# Altium schematic symbol library con-ptr500.SCHLIB: 34 symbols
Pins are listed as number, name and electrical type; pins without a type are passive.

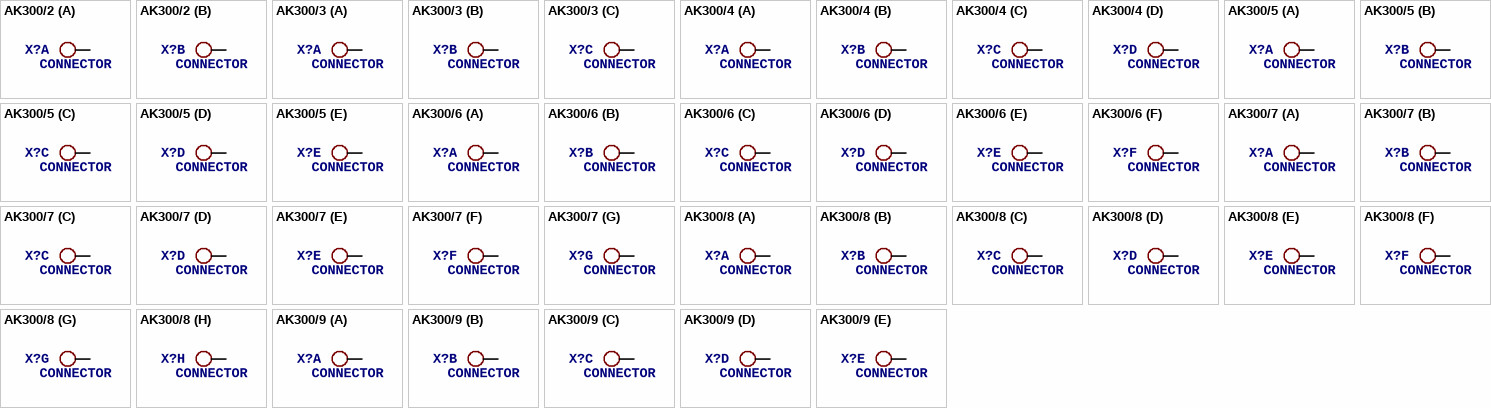
[diagram p0: symbols AK300/2 to AK300/9]

## AK300/2
designator X?, comment CONNECTOR
OC_FARNELL: unknown; OC_NEWARK: unknown
footprint AK300/2
part A pins: 1 KL
part B pins: 2 KL

## AK300/3
designator X?, comment CONNECTOR
OC_FARNELL: unknown; OC_NEWARK: unknown
footprint AK300/3
part A pins: 1 KL
part B pins: 2 KL
part C pins: 3 KL

## AK300/4
designator X?, comment CONNECTOR
OC_FARNELL: unknown; OC_NEWARK: unknown
footprint AK300/4
part A pins: 1 KL
part B pins: 2 KL
part C pins: 3 KL
part D pins: 4 KL

## AK300/5
designator X?, comment CONNECTOR
OC_FARNELL: unknown; OC_NEWARK: unknown
footprint AK300/5
part A pins: 1 KL
part B pins: 2 KL
part C pins: 3 KL
part D pins: 4 KL
part E pins: 5 KL

## AK300/6
designator X?, comment CONNECTOR
OC_FARNELL: unknown; OC_NEWARK: unknown
footprint AK300/6
part A pins: 1 KL
part B pins: 2 KL
part C pins: 3 KL
part D pins: 4 KL
part E pins: 5 KL
part F pins: 6 KL

## AK300/7
designator X?, comment CONNECTOR
OC_FARNELL: unknown; OC_NEWARK: unknown
footprint AK300/7
part A pins: 1 KL
part B pins: 2 KL
part C pins: 3 KL
part D pins: 4 KL
part E pins: 5 KL
part F pins: 6 KL
part G pins: 7 KL

## AK300/8
designator X?, comment CONNECTOR
OC_FARNELL: unknown; OC_NEWARK: unknown
footprint AK300/8
part A pins: 1 KL
part B pins: 2 KL
part C pins: 3 KL
part D pins: 4 KL
part E pins: 5 KL
part F pins: 6 KL
part G pins: 7 KL
part H pins: 8 KL

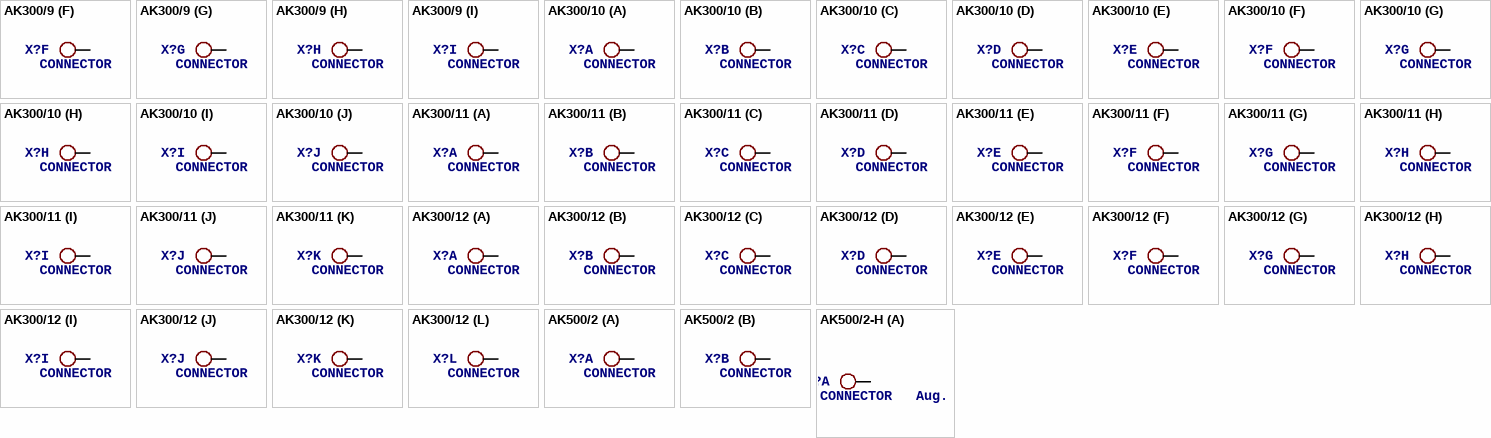
[diagram p1: symbols AK300/9 to AK500/2-H]

## AK300/9
designator X?, comment CONNECTOR
OC_FARNELL: unknown; OC_NEWARK: unknown
footprint AK300/9
part A pins: 1 KL
part B pins: 2 KL
part C pins: 3 KL
part D pins: 4 KL
part E pins: 5 KL
part F pins: 6 KL
part G pins: 7 KL
part H pins: 8 KL
part I pins: 9 KL

## AK300/10
designator X?, comment CONNECTOR
OC_FARNELL: unknown; OC_NEWARK: unknown
footprint AK300/10
part A pins: 1 KL
part B pins: 2 KL
part C pins: 3 KL
part D pins: 4 KL
part E pins: 5 KL
part F pins: 6 KL
part G pins: 7 KL
part H pins: 8 KL
part I pins: 9 KL
part J pins: 10 KL

## AK300/11
designator X?, comment CONNECTOR
OC_FARNELL: unknown; OC_NEWARK: unknown
footprint AK300/11
part A pins: 1 KL
part B pins: 2 KL
part C pins: 3 KL
part D pins: 4 KL
part E pins: 5 KL
part F pins: 6 KL
part G pins: 7 KL
part H pins: 8 KL
part I pins: 9 KL
part J pins: 10 KL
part K pins: 11 KL

## AK300/12
designator X?, comment CONNECTOR
OC_FARNELL: unknown; OC_NEWARK: unknown
footprint AK300/12
part A pins: 1 KL
part B pins: 2 KL
part C pins: 3 KL
part D pins: 4 KL
part E pins: 5 KL
part F pins: 6 KL
part G pins: 7 KL
part H pins: 8 KL
part I pins: 9 KL
part J pins: 10 KL
part K pins: 11 KL
part L pins: 12 KL

## AK500/2
designator X?, comment CONNECTOR
OC_FARNELL: unknown; OC_NEWARK: unknown
footprint AK500/2
part A pins: 1 KL
part B pins: 2 KL

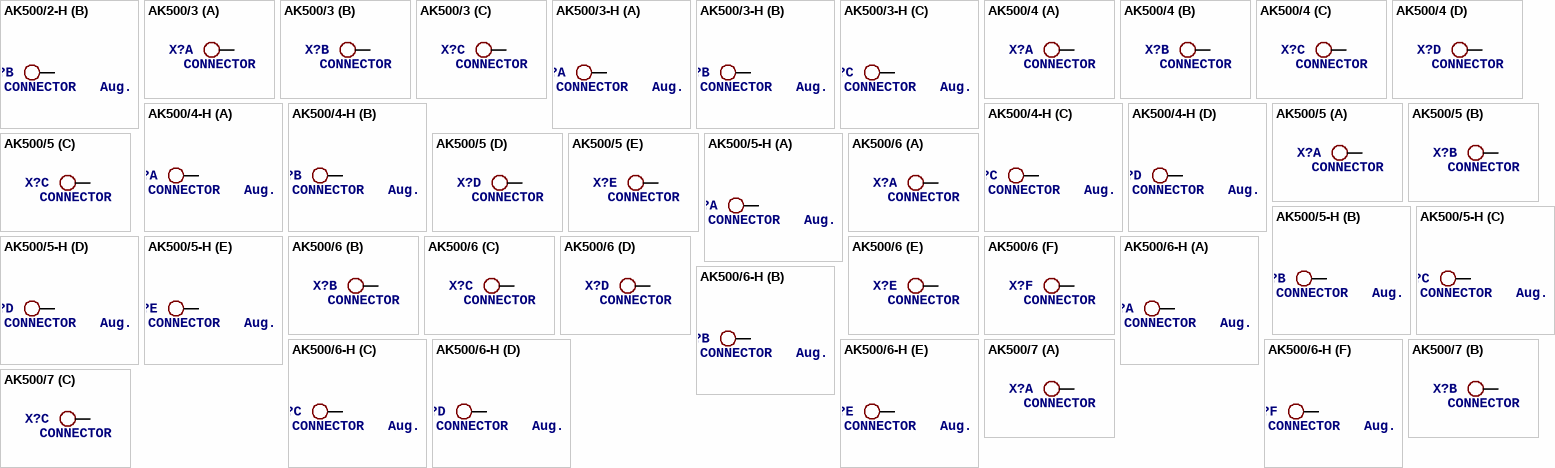
[diagram p2: symbols AK500/2-H to AK500/7]

## AK500/2-H
designator X?, comment CONNECTOR   Aug. 2004 / PTR Meßtechnik: Die Bezeichnung der Serie AK505 wurde geändert. Es handelt sich hierbei um AK500 in horizontaler Ausführung.
OC_FARNELL: unknown; OC_NEWARK: unknown
footprint AK500/2-H
part A pins: 1 KL
part B pins: 2 KL

## AK500/3
designator X?, comment CONNECTOR
OC_FARNELL: unknown; OC_NEWARK: unknown
footprint AK500/3
part A pins: 1 KL
part B pins: 2 KL
part C pins: 3 KL

## AK500/3-H
designator X?, comment CONNECTOR   Aug. 2004 / PTR Meßtechnik: Die Bezeichnung der Serie AK505 wurde geändert. Es handelt sich hierbei um AK500 in horizontaler Ausführung.
OC_FARNELL: unknown; OC_NEWARK: unknown
footprint AK500/3-H
part A pins: 1 KL
part B pins: 2 KL
part C pins: 3 KL

## AK500/4
designator X?, comment CONNECTOR
OC_FARNELL: unknown; OC_NEWARK: unknown
footprint AK500/4
part A pins: 1 KL
part B pins: 2 KL
part C pins: 3 KL
part D pins: 4 KL

## AK500/4-H
designator X?, comment CONNECTOR   Aug. 2004 / PTR Meßtechnik: Die Bezeichnung der Serie AK505 wurde geändert. Es handelt sich hierbei um AK500 in horizontaler Ausführung.
OC_FARNELL: unknown; OC_NEWARK: unknown
footprint AK500/4-H
part A pins: 1 KL
part B pins: 2 KL
part C pins: 3 KL
part D pins: 4 KL

## AK500/5
designator X?, comment CONNECTOR
OC_FARNELL: unknown; OC_NEWARK: unknown
footprint AK500/5
part A pins: 1 KL
part B pins: 2 KL
part C pins: 3 KL
part D pins: 4 KL
part E pins: 5 KL

## AK500/5-H
designator X?, comment CONNECTOR   Aug. 2004 / PTR Meßtechnik: Die Bezeichnung der Serie AK505 wurde geändert. Es handelt sich hierbei um AK500 in horizontaler Ausführung.
OC_FARNELL: unknown; OC_NEWARK: unknown
footprint AK500/5-H
part A pins: 1 KL
part B pins: 2 KL
part C pins: 3 KL
part D pins: 4 KL
part E pins: 5 KL

## AK500/6
designator X?, comment CONNECTOR
OC_FARNELL: unknown; OC_NEWARK: unknown
footprint AK500/6
part A pins: 1 KL
part B pins: 2 KL
part C pins: 3 KL
part D pins: 4 KL
part E pins: 5 KL
part F pins: 6 KL

## AK500/6-H
designator X?, comment CONNECTOR   Aug. 2004 / PTR Meßtechnik: Die Bezeichnung der Serie AK505 wurde geändert. Es handelt sich hierbei um AK500 in horizontaler Ausführung.
footprint AK500/6-H
part A pins: 1 KL
part B pins: 2 KL
part C pins: 3 KL
part D pins: 4 KL
part E pins: 5 KL
part F pins: 6 KL

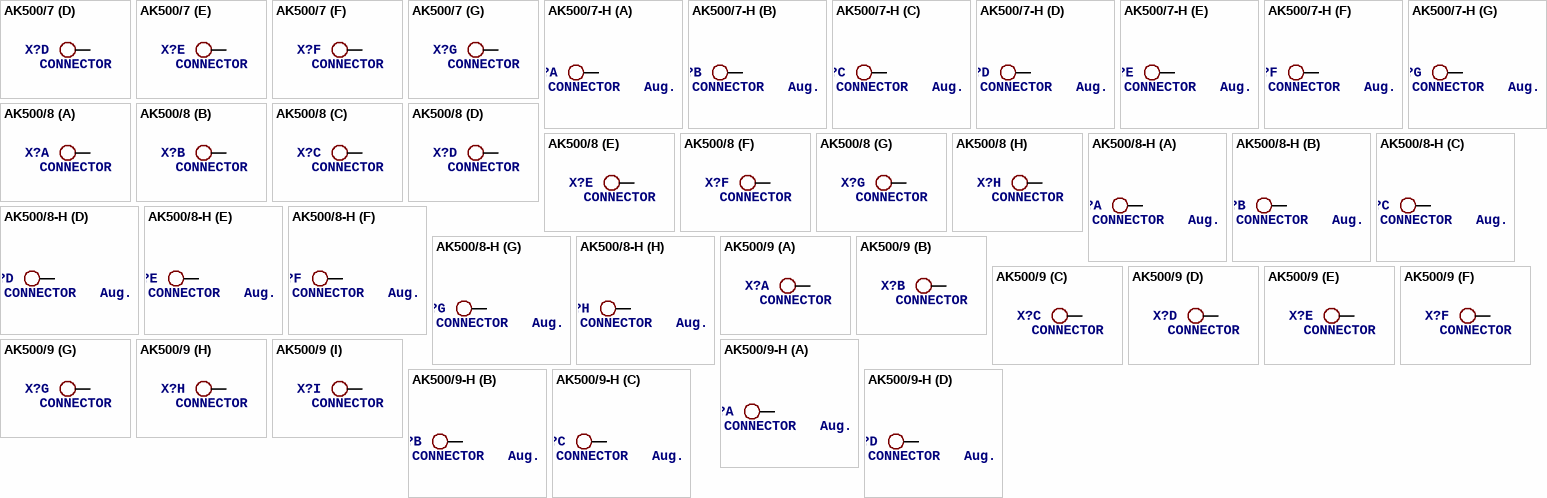
[diagram p3: symbols AK500/7 to AK500/9-H]

## AK500/7
designator X?, comment CONNECTOR
OC_FARNELL: unknown; OC_NEWARK: unknown
footprint AK500/7
part A pins: 1 KL
part B pins: 2 KL
part C pins: 3 KL
part D pins: 4 KL
part E pins: 5 KL
part F pins: 6 KL
part G pins: 7 KL

## AK500/7-H
designator X?, comment CONNECTOR   Aug. 2004 / PTR Meßtechnik: Die Bezeichnung der Serie AK505 wurde geändert. Es handelt sich hierbei um AK500 in horizontaler Ausführung.
OC_FARNELL: unknown; OC_NEWARK: unknown
footprint AK500/7-H
part A pins: 1 KL
part B pins: 2 KL
part C pins: 3 KL
part D pins: 4 KL
part E pins: 5 KL
part F pins: 6 KL
part G pins: 7 KL

## AK500/8
designator X?, comment CONNECTOR
OC_FARNELL: unknown; OC_NEWARK: unknown
footprint AK500/8
part A pins: 1 KL
part B pins: 2 KL
part C pins: 3 KL
part D pins: 4 KL
part E pins: 5 KL
part F pins: 6 KL
part G pins: 7 KL
part H pins: 8 KL

## AK500/8-H
designator X?, comment CONNECTOR   Aug. 2004 / PTR Meßtechnik: Die Bezeichnung der Serie AK505 wurde geändert. Es handelt sich hierbei um AK500 in horizontaler Ausführung.
OC_FARNELL: unknown; OC_NEWARK: unknown
footprint AK500/8-H
part A pins: 1 KL
part B pins: 2 KL
part C pins: 3 KL
part D pins: 4 KL
part E pins: 5 KL
part F pins: 6 KL
part G pins: 7 KL
part H pins: 8 KL

## AK500/9
designator X?, comment CONNECTOR
OC_FARNELL: unknown; OC_NEWARK: unknown
footprint AK500/9
part A pins: 1 KL
part B pins: 2 KL
part C pins: 3 KL
part D pins: 4 KL
part E pins: 5 KL
part F pins: 6 KL
part G pins: 7 KL
part H pins: 8 KL
part I pins: 9 KL

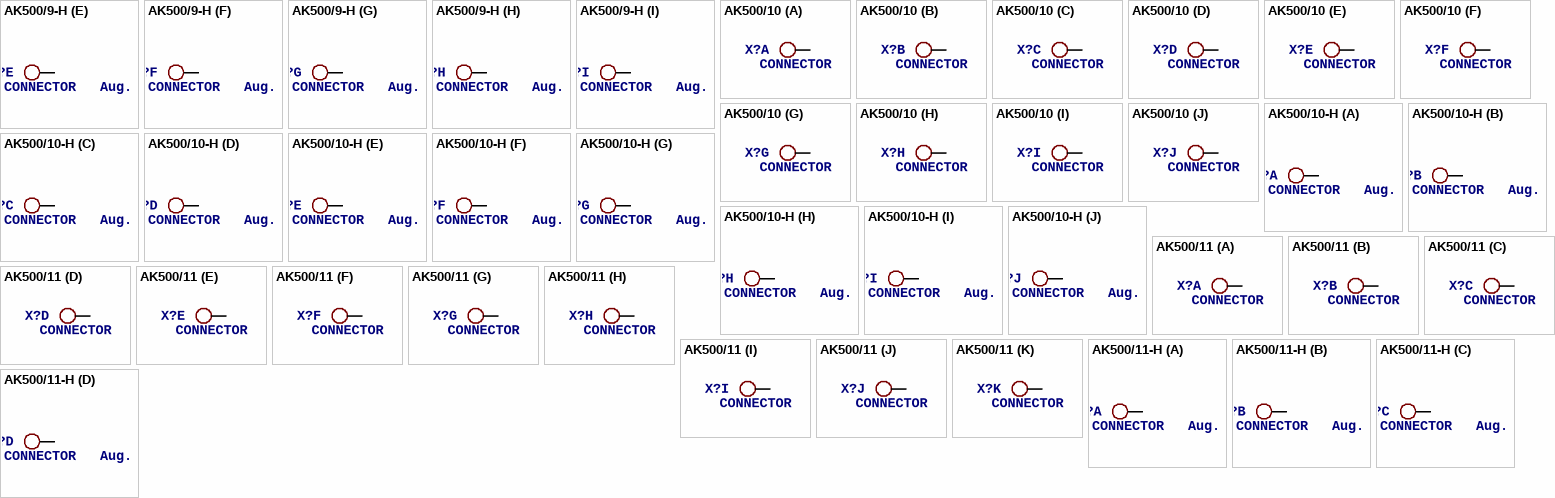
[diagram p4: symbols AK500/9-H to AK500/11-H]

## AK500/9-H
designator X?, comment CONNECTOR   Aug. 2004 / PTR Meßtechnik: Die Bezeichnung der Serie AK505 wurde geändert. Es handelt sich hierbei um AK500 in horizontaler Ausführung.
OC_FARNELL: unknown; OC_NEWARK: unknown
footprint AK500/9-H
part A pins: 1 KL
part B pins: 2 KL
part C pins: 3 KL
part D pins: 4 KL
part E pins: 5 KL
part F pins: 6 KL
part G pins: 7 KL
part H pins: 8 KL
part I pins: 9 KL

## AK500/10
designator X?, comment CONNECTOR
OC_FARNELL: unknown; OC_NEWARK: unknown
footprint AK500/10
part A pins: 1 KL
part B pins: 2 KL
part C pins: 3 KL
part D pins: 4 KL
part E pins: 5 KL
part F pins: 6 KL
part G pins: 7 KL
part H pins: 8 KL
part I pins: 9 KL
part J pins: 10 KL

## AK500/10-H
designator X?, comment CONNECTOR   Aug. 2004 / PTR Meßtechnik: Die Bezeichnung der Serie AK505 wurde geändert. Es handelt sich hierbei um AK500 in horizontaler Ausführung.
OC_FARNELL: unknown; OC_NEWARK: unknown
footprint AK500/10-H
part A pins: 1 KL
part B pins: 2 KL
part C pins: 3 KL
part D pins: 4 KL
part E pins: 5 KL
part F pins: 6 KL
part G pins: 7 KL
part H pins: 8 KL
part I pins: 9 KL
part J pins: 10 KL

## AK500/11
designator X?, comment CONNECTOR
OC_FARNELL: unknown; OC_NEWARK: unknown
footprint AK500/11
part A pins: 1 KL
part B pins: 2 KL
part C pins: 3 KL
part D pins: 4 KL
part E pins: 5 KL
part F pins: 6 KL
part G pins: 7 KL
part H pins: 8 KL
part I pins: 9 KL
part J pins: 10 KL
part K pins: 11 KL

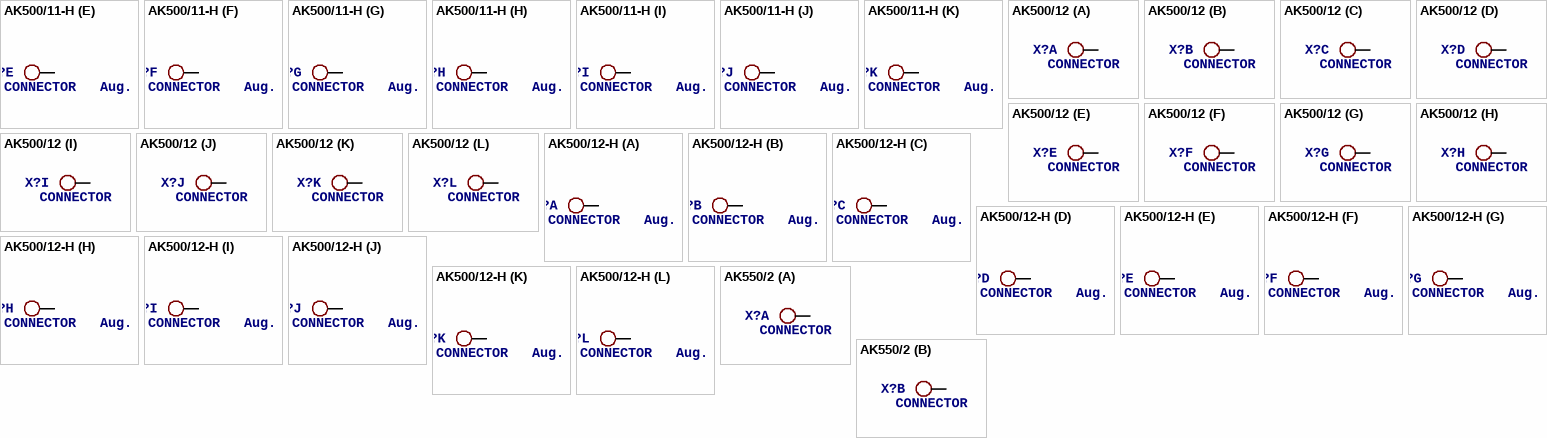
[diagram p5: symbols AK500/11-H to AK550/2]

## AK500/11-H
designator X?, comment CONNECTOR   Aug. 2004 / PTR Meßtechnik: Die Bezeichnung der Serie AK505 wurde geändert. Es handelt sich hierbei um AK500 in horizontaler Ausführung.
OC_FARNELL: unknown; OC_NEWARK: unknown
footprint AK500/11-H
part A pins: 1 KL
part B pins: 2 KL
part C pins: 3 KL
part D pins: 4 KL
part E pins: 5 KL
part F pins: 6 KL
part G pins: 7 KL
part H pins: 8 KL
part I pins: 9 KL
part J pins: 10 KL
part K pins: 11 KL

## AK500/12
designator X?, comment CONNECTOR
OC_FARNELL: unknown; OC_NEWARK: unknown
footprint AK500/12
part A pins: 1 KL
part B pins: 2 KL
part C pins: 3 KL
part D pins: 4 KL
part E pins: 5 KL
part F pins: 6 KL
part G pins: 7 KL
part H pins: 8 KL
part I pins: 9 KL
part J pins: 10 KL
part K pins: 11 KL
part L pins: 12 KL

## AK500/12-H
designator X?, comment CONNECTOR   Aug. 2004 / PTR Meßtechnik: Die Bezeichnung der Serie AK505 wurde geändert. Es handelt sich hierbei um AK500 in horizontaler Ausführung.
OC_FARNELL: unknown; OC_NEWARK: unknown
footprint AK500/12-H
part A pins: 1 KL
part B pins: 2 KL
part C pins: 3 KL
part D pins: 4 KL
part E pins: 5 KL
part F pins: 6 KL
part G pins: 7 KL
part H pins: 8 KL
part I pins: 9 KL
part J pins: 10 KL
part K pins: 11 KL
part L pins: 12 KL

## AK550/2
designator X?, comment CONNECTOR
OC_FARNELL: unknown; OC_NEWARK: unknown
footprint AK550/2
part A pins: 1 KL
part B pins: 2 KL